# Altium schematic symbol library TP55.Schlib: 1 symbol
Pins are listed as number, name and electrical type; pins without a type are passive.

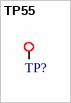
[diagram p0: symbol TP55]

## TP55
designator TP?, comment TESTPOINT  (value not drawn)  (no BOM)
0.055" Round Testpoint
pins: 1